# EAGLE library part ADXL375BCCZ (library CU in Space)
ACCELEROMETER, 200G, LGA-14
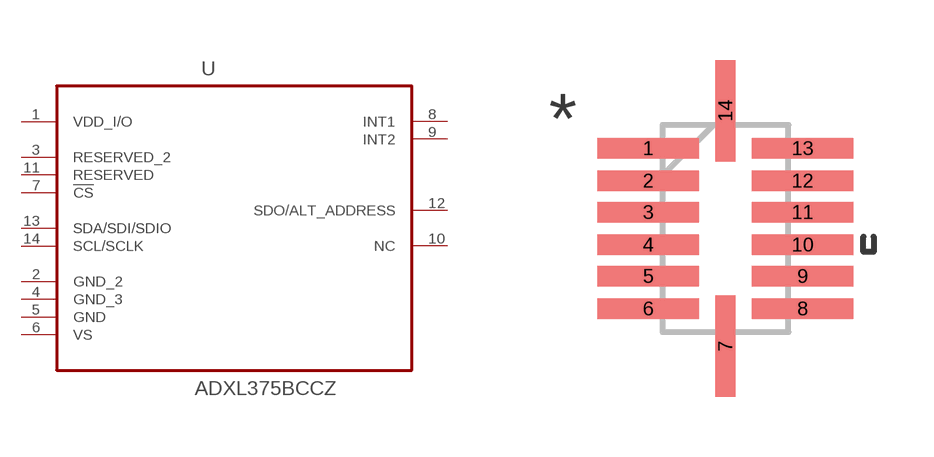
[diagram p0: symbol with the pads of LGA14R80P1X6_300X500100; footprint LGA14R80P1X6_300X500100]

Designator prefix U

## ADXL375BCCZ (MPN: ADXL375BCCZ; OC_FARNELL: 2361527; OC_NEWARK: 06X4785; PACKAGE: LGA-14; SUPPLIER: ANALOG DEVICES)  [LGA14R80P1X6_300X500100]
1  VDD_I/O  pwr
2  GND_2  pas
3  RESERVED_2  pas
4  GND_3  pas
5  GND  pas
6  VS  pwr
7  !CS  pas
8  INT1  out
9  INT2  out
10  NC  nc
11  RESERVED  pas
12  SDO/ALT_ADDRESS  out
13  SDA/SDI/SDIO  pas
14  SCL/SCLK  pas

## Footprint LGA14R80P1X6_300X500100 (pad centres in mm)
smd 2.54 x 0.508: 1 -1.93,2.007; 2 -1.93,1.194; 3 -1.93,0.406; 4 -1.93,-0.406; 5 -1.93,-1.194; 6 -1.93,-2.007; 8 1.93,-2.007; 9 1.93,-1.194; 10 1.93,-0.406; 11 1.93,0.406; 12 1.93,1.194; 13 1.93,2.007
smd 0.508 x 2.54: 7 0,-2.946; 14 0,2.946